# EAGLE library part TLC540 (library tlc540)
TLC540 AD Converter The TLC540 AD-Converter has a resolution of 8 bits, 11 channel, 1 internal test channel, serial interface, independent system and io clocks. Typical conversion time ~17µS. VCC=5V,REF=0...5V
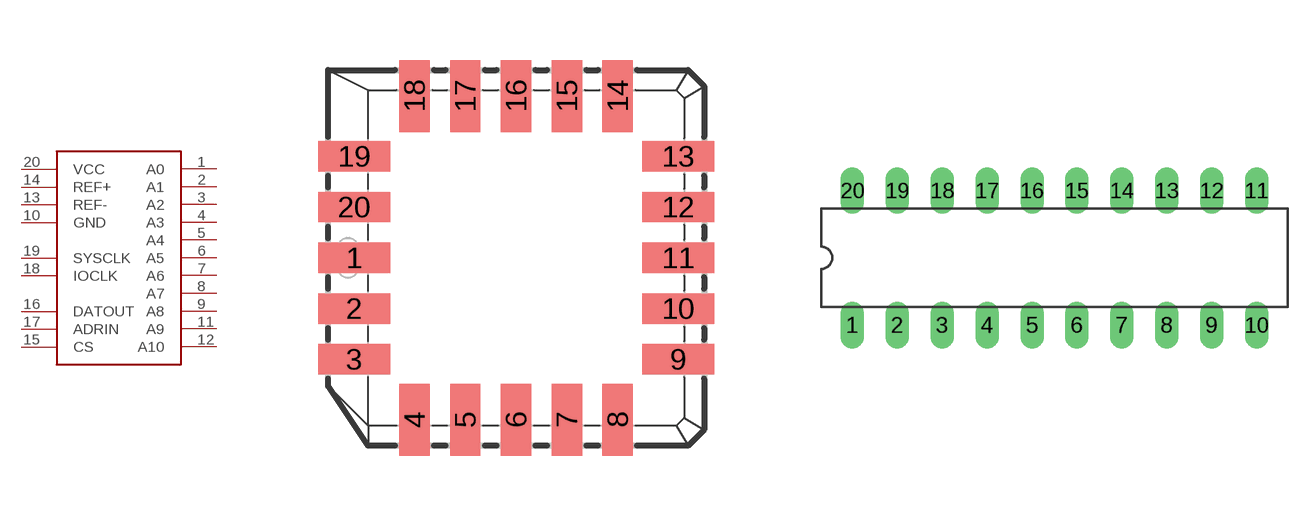
[diagram p0: symbol with the pads of PLCC20; footprints PLCC20, DIL20]

Designator prefix -

## TLC540PLCC-20  [PLCC20]
1  A0
2  A1
3  A2
4  A3
5  A4
6  A5
7  A6
8  A7
9  A8
10  GND
11  A9
12  A10
13  REF-
14  REF+
15  CS
16  DATOUT
17  ADRIN
18  IOCLK
19  SYSCLK
20  VCC

## TLC540DIL-20  [DIL20]
Pads as for PLCC20

## Footprint PLCC20 (pad centres in mm)
Plastic Leaded Chip Carrier
smd 1.8 x 0.76: 1 -4.05,0; 2 -4.05,-1.27; 3 -4.05,-2.54; 9 4.05,-2.54; 10 4.05,-1.27; 11 4.05,0; 12 4.05,1.27; 13 4.05,2.54; 19 -4.05,2.54; 20 -4.05,1.27
smd 0.76 x 1.8: 4 -2.54,-4.05; 5 -1.27,-4.05; 6 0,-4.05; 7 1.27,-4.05; 8 2.54,-4.05; 14 2.54,4.05; 15 1.27,4.05; 16 0,4.05; 17 -1.27,4.05; 18 -2.54,4.05

## Footprint DIL20 (pad centres in mm)
Dual In Line Package, 20 PINs
drill 0.813 long: 1 -11.43,-3.81; 2 -8.89,-3.81; 3 -6.35,-3.81; 4 -3.81,-3.81; 5 -1.27,-3.81; 6 1.27,-3.81; 7 3.81,-3.81; 8 6.35,-3.81; 9 8.89,-3.81; 10 11.43,-3.81; 11 11.43,3.81; 12 8.89,3.81; 13 6.35,3.81; 14 3.81,3.81; 15 1.27,3.81; 16 -1.27,3.81; 17 -3.81,3.81; 18 -6.35,3.81; 19 -8.89,3.81; 20 -11.43,3.81